# Altium schematic symbol library Transistors.SchLib: 148 symbols
Pins are listed as number, name and electrical type; pins without a type are passive.

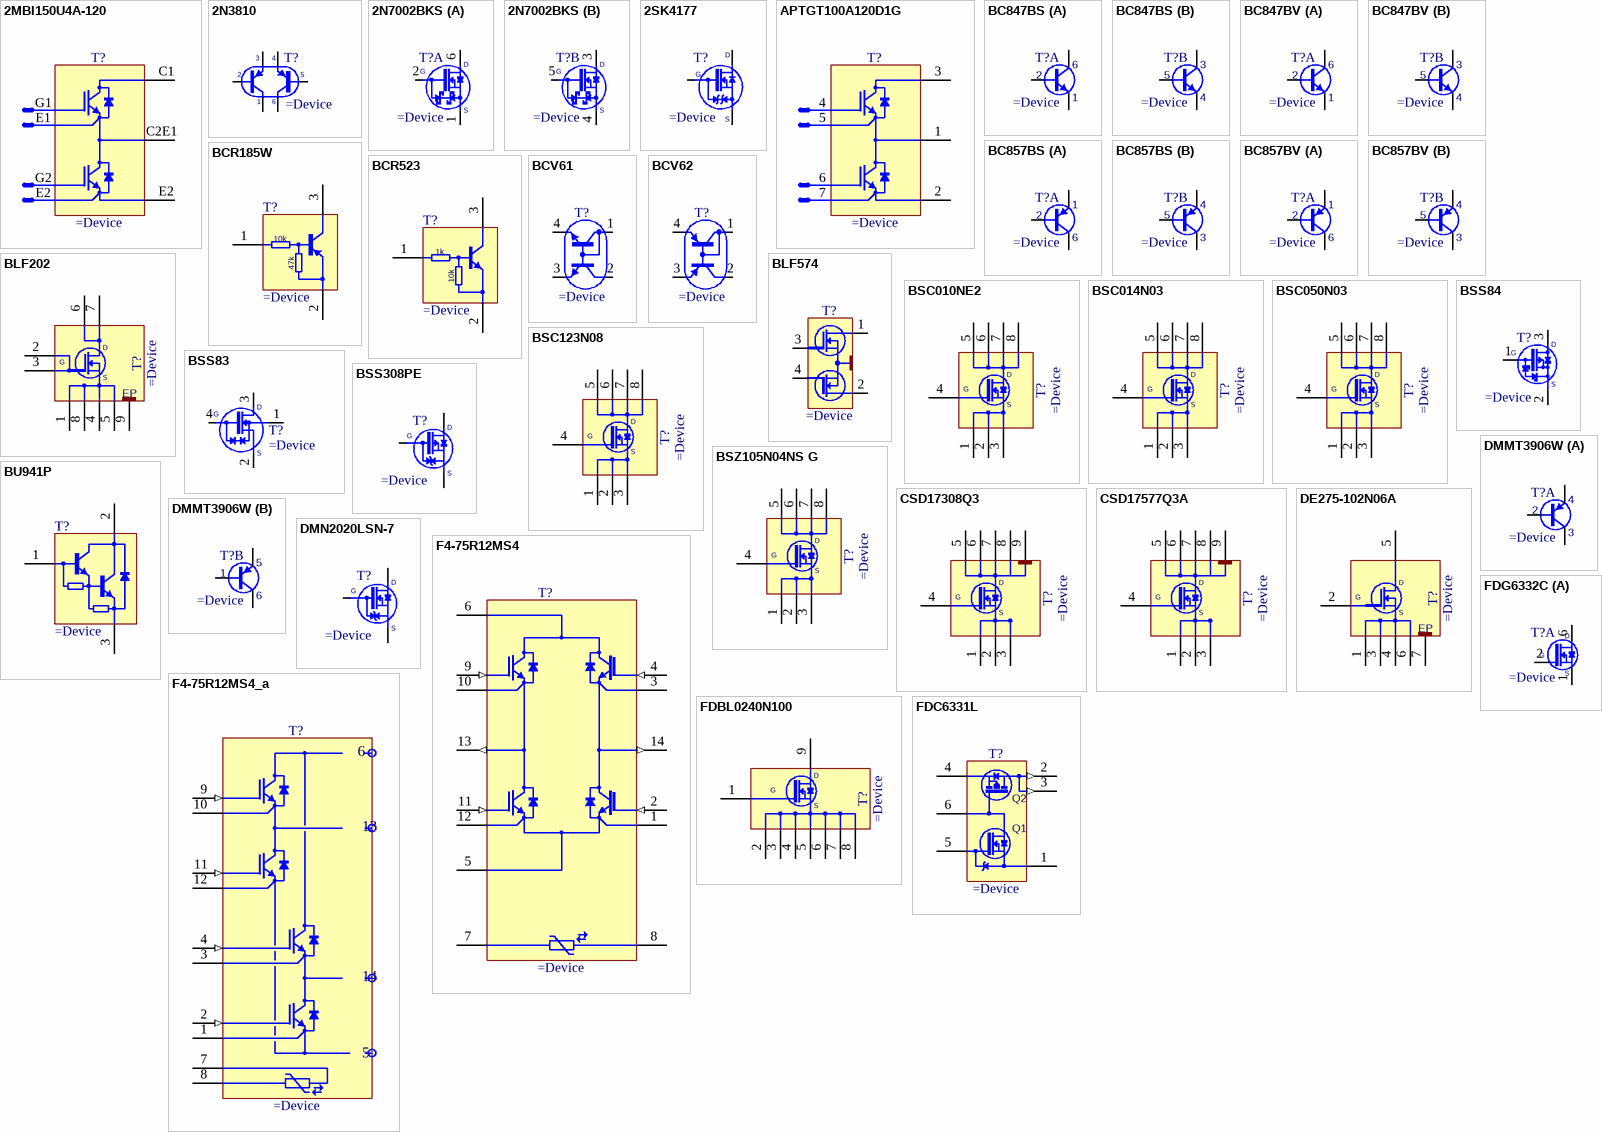
[diagram p0: symbols 2MBI150U4A-120 to FDG6332C]

## 2MBI150U4A-120
designator T?
150A 1200V, U Series (Gen.5), Trench-FS, N-Channel IGBTModule
pins: C1 (oc), C2E1 (oc), E2 (oe)
text: G1; E1; G2

## 2N3810
designator T?
Slilicon Dual Matched PNP Transistors
pins: 1 C1, 2 B1, 3 E1, 4 E2, 5 B2, 6 C2

## 2N7002BKS
designator T?
60V, 300mA Dual N-Channel Trench MOSFET
part A pins: 1 S, 2 G, 6 D
part B pins: 3 D, 4 S, 5 G

## 2SK4177
designator T?
1500V 2A N-Channel Power MOSFET
pins: 1 G, 2 S, 3 D

## APTGT100A120D1G
designator T?
Phase Leg Trench + Field Stop IGBTPower Module
pins: 1 C (oc), 2 E2 (oe), 3 C (oc)
text: 4; 5; 6; 7

## BC847BS
designator T?
45V 100mA Dual NPN General-Purpose Transistor
part A pins: 1 E, 2 B, 6 C
part B pins: 3 C, 4 E, 5 B

## BC847BV
designator T?
45V, 100mA NPN General Purpose Double Transistor
part A pins: 1 E, 2 B, 6 C
part B pins: 3 C, 4 E, 5 B

## BC857BS
designator T?
45V 100mA Dual NPN General-Purpose Transistor
part A pins: 1 E, 2 B, 6 C
part B pins: 3 C, 4 E, 5 B

## BC857BV
designator T?
45V, 100mA PNP General Purpose Double Transistor
part A pins: 1 E, 2 B, 6 C
part B pins: 3 C, 4 E, 5 B

## BCR185W
designator T?
PNP Silicon Digital Transistors
pins: 1 B, 2 E, 3 C
text: 10k; 47k

## BCR523
designator T?
NPN Silicon Digital Transistors
pins: 1 B, 2 E, 3 C
text: 1k; 10k

## BCV61
designator T?
Double NPN Transistor
pins: 1 C, 2 C, 3 E, 4 E

## BCV62
designator T?
Double PNP Transistor
pins: 1 C, 2 C, 3 E, 4 E

## BLF202
designator T?
HF/VHF power MOS transistor
pins: 1 S, 2 G, 3 S, 4 S, 5 D, 6 D, 7 D, 8 S, 9 EP

## BLF574
designator T?
HF / VHF power LDMOS transistor
pins: 1 D, 2 D, 3 S, 4 S

## BSC010NE2
designator T?
25V 100A N-Channel OptiMOS 3 Power-MOSFET
pins: 1 S, 2 S, 3 S, 4 G, D, D, D, D
text: 5; 6; 7; 8

## BSC014N03
designator T?
30V 100A N-Channel OptiMOS 3 Power-MOSFET
pins: 1 S, 2 S, 3 S, 4 S, D, D, D, D
text: 5; 6; 7; 8; G

## BSC050N03
designator T?
30V 80A N-Channel OptiMOS 3 Power-MOSFET
pins: 1 S, 2 S, 3 S, 4 G, D, D, D, D
text: 5; 6; 7; 8

## BSC123N08
designator T?
80V 55A N-Channel OptiMOS 3 Power-Transistor
pins: 1 S, 2 S, 3 S, 4 S, D, D, D, D
text: 5; 6; 7; 8; G

## BSS83
designator T?
10V, 50 mA N-Channel Enhancement Switching Transistor
pins: 1 SUB, 2 S, 3 D, 4 G

## BSS84
designator T?
50V, 180mA P-Channel Trench MOSFET
pins: 1 G, 2 S, 3 D

## BSS308PE
designator T?
-30V, -2A, P-Channel OptiMOS P3 Small-Signal-Transistor
pins: 1 G, 2 S, 3 D

## BSZ105N04NS G
designator T?
40V 40A N-Channel OptiMOS 3 Power-Transistor
pins: 1 S, 2 S, 3 S, 4 S, D, D, D, D
text: 5; 6; 7; 8; G

## BU941P
designator T?
High Voltage Ignition Coil Driver NPN Power Darlington Transistor
pins: 1 B, 2 C, 3 E

## CSD17308Q3
designator T?
30V 60A N-Channel  NexFET Power MOSFET
pins: 1 S, 2 S, 3 S, 4 S, 5 D, 6 D, 7 D, 8 D, 9 EP
text: G

## CSD17577Q3A
designator T?
30V 35A N-Channel  NexFET Power MOSFET
pins: 1 S, 2 S, 3 S, 4 S, 5 D, 6 D, 7 D, 8 D, 9 EP
text: G

## DE275-102N06A
designator T?
6A, 1000V,  RF power MOSFET
pins: 1 S, 2 G, 3 S, 4 S, 5 D, 6 D, 7 EP

## DMMT3906W
designator T?
40V Matched Pair PNP Small Signal Transistor
part A pins: 2 B, 3 C, 4 E
part B pins: 1 B, 5 E, 6 C

## DMN2020LSN-7
designator T?
20V, 6.9A, N-Channel Enhancement Mode MOSFET
pins: 1 G, 2 S, 3 D

## F4-75R12MS4
designator T?
1200V 75A EconoDUAL 2 module With The Fast IGBT2 For High-Frequency Switching And NTC
pins: 1 E (oc), 2 G (in), 3 E (oe), 4 G (in), 5 EE (oe), 6 CC (oc), 7 NTC, 8 NTC, 9 G (in), 10 E (oe), 11 G (in), 12 E (oe), 13 EC (out), 14 EC (out)

## F4-75R12MS4_a
designator T?
1200V 75A EconoDUAL 2 module With The Fast IGBT2 For High-Frequency Switching And NTC
pins: 1 E (oc), 2 G (in), 3 E (oe), 4 G (in), 7 NTC, 8 NTC, 9 G (in), 10 E (oe), 11 G (in), 12 E (oe)
text: 6; 13; 14; 5

## FDBL0240N100
designator T?
100V 210A N-Channel PowerTrench MOSFET
pins: 1 S, 2 S, 3 S, 4 S, 5 S, 6 S, 7 S, 8 S, 9 D
text: G

## FDC6331L
designator T?
8V, 2.8A, Integrated Load Switch, Dual MOSFET (P-Channel and N-Channel)
pins: 1 R2, 2 VOUT,C1 (out), 3 VOUT,C1 (out), 4 VIN,R1, 5 ON/OFF, 6 R1,C1
text: Q2; Q1

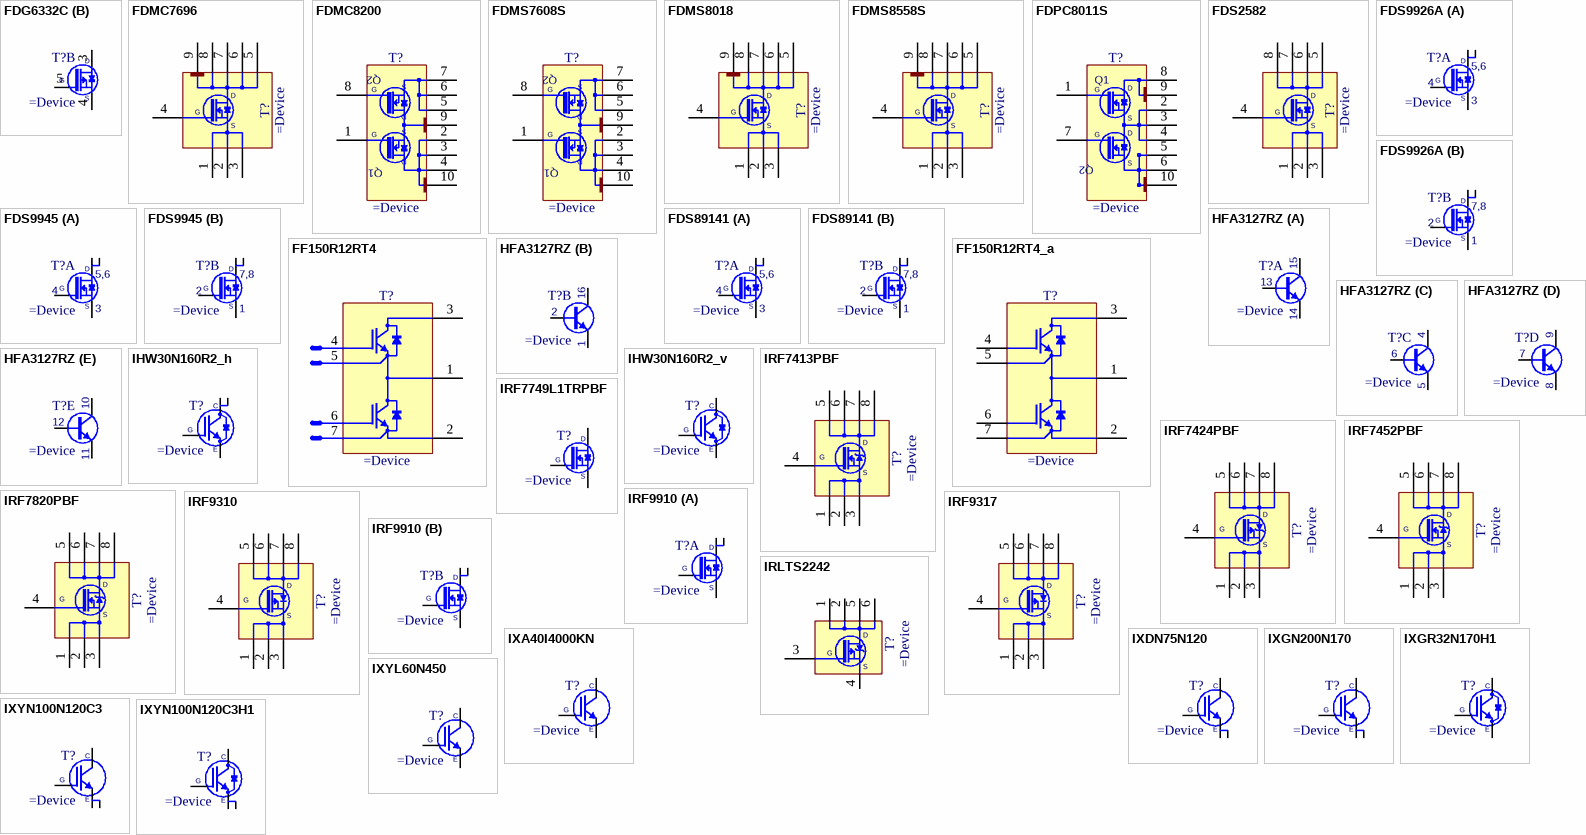
[diagram p1: symbols FDG6332C to IXYN100N120C3H1]

## FDG6332C
designator T?
20V N & P-Channel PowerTrench MOSFETs
part A pins: 1 S, 2 G, 6 D
part B pins: 3 D, 4 S, 5 G

## FDMC7696
designator T?
30V, 12A, N-Channel PowerTrench® MOSFET
pins: 1 S, 2 S, 3 S, 4 G, 5 D, 6 D, 7 D, 8 D, 9 D

## FDMC8200
designator T?
30V Dual N-Channel PowerTrench® MOSFET
pins: 1 G1, 2 D1, 3 D1, 4 D1, 5 S2, 6 S2, 7 S2, 8 G2, 9 S1D2, 10 D1
text: Q2; S; G; D; Q1

## FDMS7608S
designator T?
30V Dual N-Channel PowerTrench® MOSFET
pins: 1 G1, 2 D1, 3 D1, 4 D1, 5 S2, 6 S2, 7 S2, 8 G2, 9 S1D2, 10 D1
text: Q2; S; G; D; Q1

## FDMS8018
designator T?
30V, 175A N-Channel PowerTrench® MOSFET
pins: 1 S, 2 S, 3 S, 4 G, 5 D, 6 D, 7 D, 8 D, 9 D

## FDMS8558S
designator T?
25V, 90A, N-Channel PowerTrench® SYNCFET
pins: 1 S, 2 S, 3 S, 4 G, 5 D, 6 D, 7 D, 8 D, 9 D

## FDPC8011S
designator T?
25V Asymmetric Dual N-Channel PowerTrench® Power Clip MOSFET
pins: 1 HSG, 2 SW, 3 SW, 4 SW, 5 GND, 6 GND, 7 LSG, 8 G2, 9 V+, 10 GND
text: D; Q1; G; S; Q2

## FDS2582
designator T?
150V 4.1A N-Channel PowerTrench® MOSFET
pins: 1 S, 2 S, 3 S, 4 G, 5 D, 6 D, 7 D, 8 D

## FDS9926A
designator T?
20V DUAL N-Channel 2.5V Specified PowerTrench MOSFET
part A pins: 3 S, 4 G, 5 D, 6 D
part B pins: 1 S, 2 G, 7 D, 8 D
part A text: 5,6
part B text: 7,8

## FDS9945
designator T?
60V N-Channel PowerTrench MOSFET
part A pins: 3 S, 4 G, 5 D, 6 D
part B pins: 1 S, 2 G, 7 D, 8 D
part A text: 5,6
part B text: 7,8

## FDS89141
designator T?
100V Dual N-Channel PowerTrench® MOSFET
part A pins: 3 S, 4 G, 5 D, 6 D
part B pins: 1 S, 2 G, 7 D, 8 D
part A text: 5,6
part B text: 7,8

## FF150R12RT4
designator T?
34mm Module with Fast Trench/Fieldstop IGBT4 and Emetter Controlled 4 Diode
pins: 1 C (oc), 2 E2 (oe), 3 C (oc)
text: 4; 5; 6; 7

## FF150R12RT4_a
designator T?
34mm Module with Fast Trench/Fieldstop IGBT4 and Emetter Controlled 4 Diode
pins: 1 C (oc), 2 E2 (oe), 3 C (oc), 4 B1 (oc), 5 E1 (oc), 6 B2 (oc), 7 E2 (oc)

## HFA3127RZ
designator T?
8GHz Ultra High Frequency NPN Transistor Array (x5)
part A pins: 13 B, 14 E, 15 C
part B pins: 1 E, 2 B, 16 C
part C pins: 4 C, 5 E, 6 B
part D pins: 7 B, 8 E, 9 C
part E pins: 10 C, 11 E, 12 B

## IHW30N160R2_h
designator T?
1600V 30A TrenchStop® Reverse Conducting (RC-)IGBT with Monolithic Body Diode
pins: 1 G, 2 C, 3 E, 4 C

## IHW30N160R2_v
designator T?
1600V 30A TrenchStop® Reverse Conducting (RC-)IGBT with Monolithic Body Diode
pins: 1 G, 2 C, 3 E

## IRF7413PBF
designator T?
30V 13A N-Channel HEXFET® Power MOSFET
pins: 1 S, 2 S, 3 S, 4 S, 5 D, 6 D, 7 D, 8 D
text: G

## IRF7424PBF
designator T?
30V 11A P-Channel HEXFET® Power MOSFET
pins: 1 S, 2 S, 3 S, 4 S, 5 D, 6 D, 7 D, 8 D
text: G

## IRF7452PBF
designator T?
100V 4.5A N-Channel HEXFET® Power MOSFET
pins: 1 S, 2 S, 3 S, 4 S, 5 D, 6 D, 7 D, 8 D
text: G

## IRF7749L1TRPBF
designator T?
33A, 60V, N-Channel DirectFET Power-MOSFET
pins: D, G, S

## IRF7820PBF
designator T?
200V 3.7A N-Channel HEXFET® Power MOSFET
pins: 1 S, 2 S, 3 S, 4 S, 5 D, 6 D, 7 D, 8 D
text: G

## IRF9310
designator T?
-30V -20A P-Channel HEXFET® Power MOSFET
pins: 1 S, 2 S, 3 S, 4 S, 5 D, 6 D, 7 D, 8 D
text: G

## IRF9317
designator T?
-30V -16A P-Channel HEXFET® Power MOSFET
pins: 1 S, 2 S, 3 S, 4 S, 5 D, 6 D, 7 D, 8 D
text: G

## IRF9910
designator T?
Dual SO-8 MOSFET For POL Cconverter
part A pins: 3 S, 4 G, 5 D, 6 D
part B pins: 1 S, 2 G, 7 D, 8 D

## IRLTS2242
designator T?
-20V -6.9A P-Channel HEXFET Power MOSFET
pins: 1 D, 2 D, 3 S, 4 S, 5 D, 6 D
text: G

## IXA40I4000KN
designator T?
Very High Voltage Single IGBT
pins: 1 G, 2 E, 3 C

## IXDN75N120
designator T?
1700V 160A High-Voltage IGBT
pins: 1 E, 2 G, 3 C, 4 E

## IXGN200N170
designator T?
High-Voltage IGBT 1700V 160A
pins: 1 E, 2 G, 3 C, 4 E

## IXGR32N170H1
designator T?
1700V, 20A, High-Voltage, Electrically Isolated Tab, Insulated Gate Bipolar Transistor (IGBT) with Diode
pins: 1 G, 2 C, 3 E

## IXYL60N450
designator T?
4500V 38A Voltage Single XPT IGBT
pins: 1 G, 2 E, 3 C

## IXYN100N120C3
designator T?
High-Speed IGBT for 20-50 kHz Switching
pins: 1 E, 2 G, 3 C, 4 E

## IXYN100N120C3H1
designator T?
High-Speed IGBT for 20-50 kHz Switching
pins: 1 E, 2 G, 3 C, 4 E

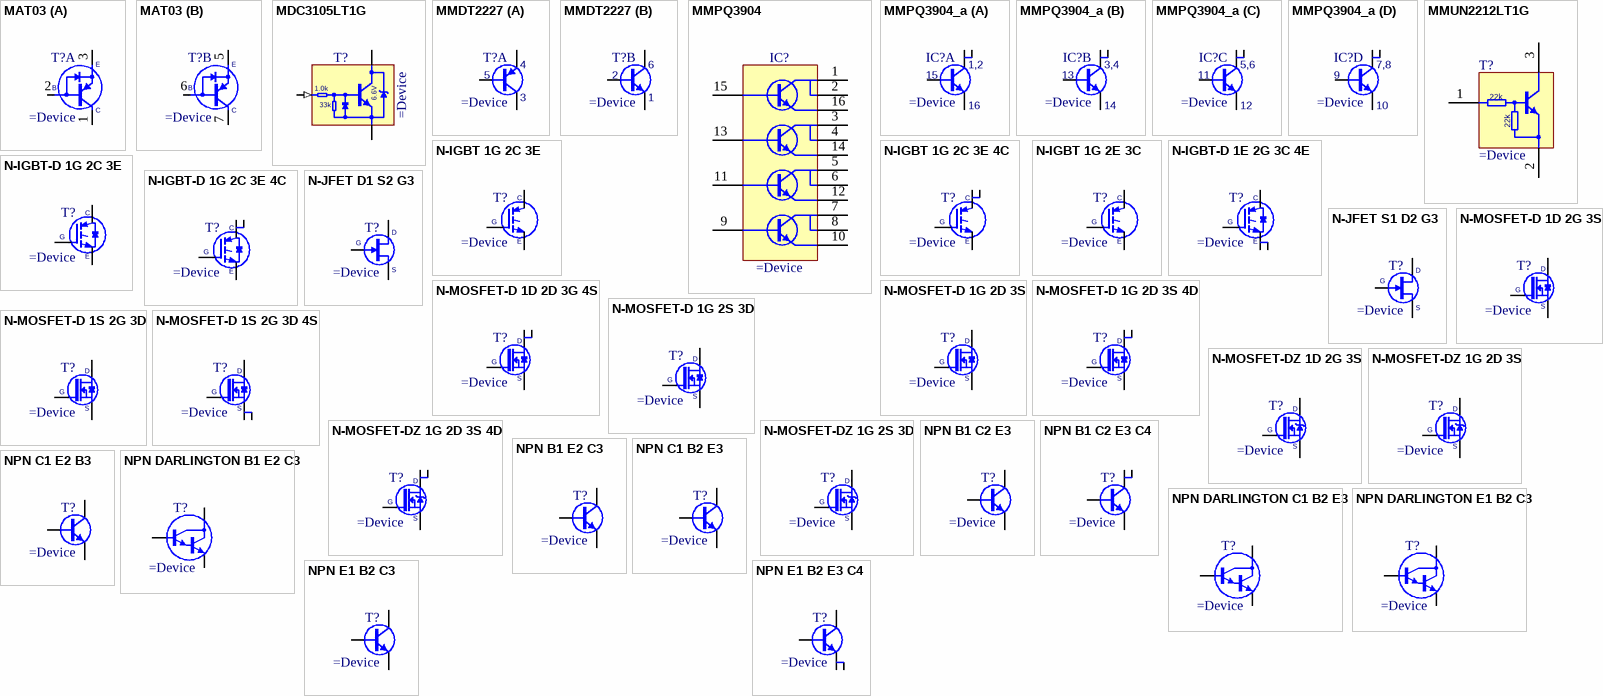
[diagram p2: symbols MAT03 to NPN E1 B2 E3 C4]

## MAT03
designator T?
Low Noise, Matched Dual PNP Transistor
part A pins: 1 C, 2 B, 3 E
part B pins: 5 E, 6 B, 7 C

## MDC3105LT1G
designator T?
Integrated Relay, Inductive Load Driver
pins: 1 IN (in), 2 GND (oe), 3 OUT (oc)
text: 1.0k; 33k; 6.6V

## MMDT2227
designator T?
Complementary NPN / PNP Small Signal Surface Mount Transistor
part A pins: 3 C, 4 E, 5 B
part B pins: 1 E, 2 B, 6 C

## MMPQ3904
designator IC?
Quad Amplifier/Switch NPN Transistor
pins: 1 C, 2 C, 3 C, 4 C, 5 C, 6 C, 7 C, 8 C, 9 C, 10 C, 11 C, 12 C, 13 C, 14 C, 15 C, 16 C

## MMPQ3904_a
designator IC?
Quad Amplifier/Switch NPN Transistor
part A pins: 1 C, 2 C, 15 B, 16 E
part B pins: 3 C, 4 C, 13 B, 14 E
part C pins: 5 C, 6 C, 11 B, 12 E
part D pins: 7 C, 8 C, 9 B, 10 E
part A text: 1,2
part B text: 3,4
part C text: 5,6
part D text: 7,8

## MMUN2212LT1G
designator T?
NPN Transistors with Monolithic Bias Resistor Network
pins: 1 B, 2 E, 3 C
text: 22k

## N-IGBT 1G 2C 3E
designator T?
N-Channel IGBT
pins: 1 G, 2 C, 3 E

## N-IGBT 1G 2C 3E 4C
designator T?
N-Channel IGBT
pins: 1 G, 2 C, 3 E, 4 C

## N-IGBT 1G 2E 3C
designator T?
N-Channel IGBT
pins: 1 G, 2 E, 3 C

## N-IGBT-D 1E 2G 3C 4E
designator T?
N-Channel IGBT With Diode
pins: 1 E, 2 G, 3 C, 4 E

## N-IGBT-D 1G 2C 3E
designator T?
N-Channel IGBT With Diode
pins: 1 G, 2 C, 3 E

## N-IGBT-D 1G 2C 3E 4C
designator T?
N-Channel IGBT With Diode
pins: 1 G, 2 C, 3 E, 4 C

## N-JFET D1 S2 G3
designator T?
N-Channel JFET
pins: 1 D, 2 S, 3 G

## N-JFET S1 D2 G3
designator T?
N-Channel JFET
pins: 1 S, 2 D, 3 G

## N-MOSFET-D 1D 2D 3G 4S
designator T?
N-Channel MOSFET
pins: 1 D, 2 D, 3 G, 4 S

## N-MOSFET-D 1D 2G 3S
designator T?
N-CHANNEL MOSFET WITH DIODE
pins: 1 D, 2 G, 3 S

## N-MOSFET-D 1G 2D 3S
designator T?
N-CHANNEL MOSFET WITH DIODE
pins: 1 G, 2 D, 3 S

## N-MOSFET-D 1G 2D 3S 4D
designator T?
N-CHANNEL MOSFET WITH DIODE AND 2 DRAIN
pins: 1 G, 2 D, 3 S, 4 D

## N-MOSFET-D 1G 2S 3D
designator T?
N-CHANNEL MOSFET WITH DIODE
pins: 1 G, 2 S, 3 D

## N-MOSFET-D 1S 2G 3D
designator T?
N-CHANNEL MOSFET WITH DIODE
pins: 1 S, 2 G, 3 D

## N-MOSFET-D 1S 2G 3D 4S
designator T?
N-CHANNEL MOSFET WITH DIODE
pins: 1 S, 2 G, 3 D, 4 S

## N-MOSFET-DZ 1D 2G 3S
designator T?
N-CHANNEL MOSFET WITH ZENER DIODE
pins: 1 D, 2 G, 3 S

## N-MOSFET-DZ 1G 2D 3S
designator T?
N-CHANNEL MOSFET WITH ZENER DIODE
pins: 1 G, 2 D, 3 S

## N-MOSFET-DZ 1G 2D 3S 4D
designator T?
N-CHANNEL MOSFET WITH ZENER DIODE
pins: 1 G, 2 D, 3 S, 4 D

## N-MOSFET-DZ 1G 2S 3D
designator T?
N-CHANNEL MOSFET WITH ZENER DIODE
pins: 1 G, 2 S, 3 D

## NPN B1 C2 E3
designator T?
NPN Transistor
pins: 1 B, 2 C, 3 E

## NPN B1 C2 E3 C4
designator T?
NPN Transistor
pins: 1 B, 2 C, 3 E, 4 C

## NPN B1 E2 C3
designator T?
NPN Transistor
pins: 1 B, 2 E, 3 C

## NPN C1 B2 E3
designator T?
NPN Transistor
pins: 1 C, 2 B, 3 E

## NPN C1 E2 B3
designator T?
NPN Transistor
pins: 1 C, 2 E, 3 B

## NPN DARLINGTON B1 E2 C3
designator T?
NPN Darlington Transistor
pins: 1 B, 2 E, 3 C

## NPN DARLINGTON C1 B2 E3
designator T?
NPN Darlington Transistor
pins: 1 C, 2 B, 3 E

## NPN DARLINGTON E1 B2 C3
designator T?
NPN Darlington Transistor
pins: 1 E, 2 B, 3 C

## NPN E1 B2 C3
designator T?
NPN Transistor
pins: 1 E, 2 B, 3 C

## NPN E1 B2 E3 C4
designator T?
NPN Transistor
pins: 1 E, 2 B, 3 E, 4 C

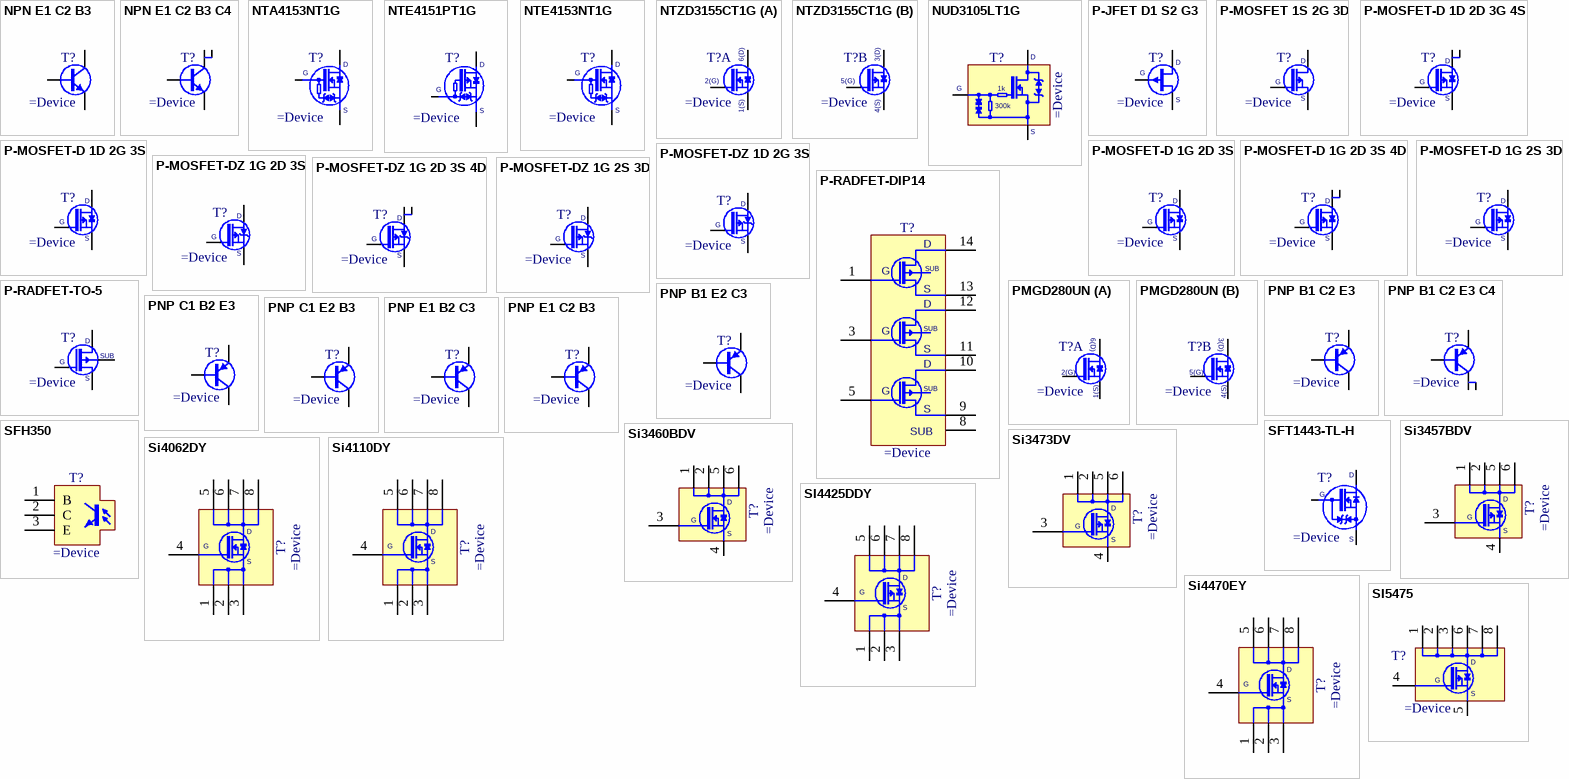
[diagram p3: symbols NPN E1 C2 B3 to SI5475]

## NPN E1 C2 B3
designator T?
NPN Transistor
pins: 1 E, 2 C, 3 B

## NPN E1 C2 B3 C4
designator T?
NPN Transistor
pins: 1 E, 2 C, 3 B, 4 C

## NTA4153NT1G
designator T?
20V, 915mA, N-Channel MOSFET with ESD Protection
pins: 1 G, 2 S, 3 D

## NTE4151PT1G
designator T?
-20V, -760mA, P-Channel MOSFET with ESD Protection
pins: 1 G, 2 S, 3 D

## NTE4153NT1G
designator T?
20V, 915mA, N-Channel MOSFET with ESD Protection
pins: 1 G, 2 S, 3 D

## NTZD3155CT1G
designator T?
Small Signal MOSFET, Complementary N-Channel 20V 540mA, P-Channel -20V -430mA
part A pins: 1 S, 2 G, 6 D
part B pins: 3 D, 4 S, 5 G
part A text: 6(D); 2(G); 1(S)
part B text: 3(D); 5(G); 4(S)

## NUD3105LT1G
designator T?
Integrated Relay, Inductive Load Driver
pins: 1 G, 2 S, 3 D
text: 1k; 300k

## P-JFET D1 S2 G3
designator T?
P-Channel JFET
pins: 1 D, 2 S, 3 G

## P-MOSFET 1S 2G 3D
designator T?
P-CHANNEL MOSFET
pins: 1 S, 2 G, 3 D

## P-MOSFET-D 1D 2D 3G 4S
designator T?
P-Channel MOSFET
pins: 1 D, 2 D, 3 G, 4 S

## P-MOSFET-D 1D 2G 3S
designator T?
P-CHANNEL MOSFET WITH DIODE
pins: 1 D, 2 G, 3 S

## P-MOSFET-D 1G 2D 3S
designator T?
P-CHANNEL MOSFET WITH DIODE
pins: 1 G, 2 D, 3 S

## P-MOSFET-D 1G 2D 3S 4D
designator T?
P-CHANNEL MOSFET WITH DIODE AND 2 DRAIN
pins: 1 G, 2 D, 3 S, 4 D

## P-MOSFET-D 1G 2S 3D
designator T?
P-CHANNEL MOSFET WITH DIODE
pins: 1 G, 2 S, 3 D

## P-MOSFET-DZ 1D 2G 3S
designator T?
P-CHANNEL MOSFET WITH ZENER DIODE
pins: 1 D, 2 G, 3 S

## P-MOSFET-DZ 1G 2D 3S
designator T?
P-CHANNEL MOSFET WITH ZENER DIODE
pins: 1 G, 2 D, 3 S

## P-MOSFET-DZ 1G 2D 3S 4D
designator T?
P-CHANNEL MOSFET WITH ZENER DIODE
pins: 1 G, 2 D, 3 S, 4 D

## P-MOSFET-DZ 1G 2S 3D
designator T?
P-CHANNEL MOSFET WITH ZENER DIODE
pins: 1 G, 2 S, 3 D

## P-RADFET-DIP14
designator T?
P-Channel Radiation-Sensing Field-Effect Transistor Dosimeter in DIP14 Package
pins: 1 G, 3 G, 5 G, 8 SUB, 9 S, 10 D, 11 S, 12 D, 13 S, 14 D
1 alternate drawing of the same symbol

## P-RADFET-TO-5
designator T?
P-Channel Radiation-Sensing Field-Effect Transistor Dosimeter in TO-5 Package
pins: 1 D, 2 G, 3 S, 4 SUB
1 alternate drawing of the same symbol

## PMGD280UN
designator T?
Dual N-Channel micro TrenchMOS™ Ultra Low Level FET
part A pins: 1 S, 2 G, 6 D
part B pins: 3 D, 4 S, 5 G
part A text: 6(D); 2(G); 1(S)
part B text: 3(D); 5(G); 4(S)

## PNP B1 C2 E3
designator T?
PNP Transistor
pins: 1 B, 2 C, 3 E

## PNP B1 C2 E3 C4
designator T?
PNP Transistor
pins: 1 B, 2 C, 3 E, 4 C

## PNP B1 E2 C3
designator T?
PNP Transistor
pins: 1 B, 2 E, 3 C

## PNP C1 B2 E3
designator T?
PNP Transistor
pins: 1 C, 2 B, 3 E

## PNP C1 E2 B3
designator T?
PNP Transistor
pins: 1 C, 2 E, 3 B

## PNP E1 B2 C3
designator T?
PNP Transistor
pins: 1 E, 2 B, 3 C

## PNP E1 C2 B3
designator T?
PNP Transistor
pins: 1 E, 2 C, 3 B

## SFH350
designator T?
Phototransistor
pins: 1 B, 2 C, 3 E

## SFT1443-TL-H
designator T?
100V, 9A, N-Channel Power MOSFET
pins: 1 G, 2 S, 3 D

## Si3457BDV
designator T?
-30V -3.7A P-Channel MOSFET
pins: 1 D, 2 D, 3 S, 4 S, 5 D, 6 D
text: G

## Si3460BDV
designator T?
N-Channel 20-V MOSFET
pins: 1 D, 2 D, 3 S, 4 S, 5 D, 6 D
text: G

## Si3473DV
designator T?
-12V -5.9A P-Channel MOSFET
pins: 1 D, 2 D, 3 S, 4 S, 5 D, 6 D
text: G

## Si4062DY
designator T?
60V 25 to 32.1A N-Channel MOSFET
pins: 1 S, 2 S, 3 S, 4 S, 5 D, 6 D, 7 D, 8 D
text: G

## Si4110DY
designator T?
80V 17.3A N-Channel TrenchFET Power MOSFET
pins: 1 S, 2 S, 3 S, 4 S, 5 D, 6 D, 7 D, 8 D
text: G

## SI4425DDY
designator T?
-30V -19.7A P-Channel MOSFET
pins: 1 S, 2 S, 3 S, 4 S, 5 D, 6 D, 7 D, 8 D
text: G

## Si4470EY
designator T?
60V 12.7A N-Channel MOSFET
pins: 1 S, 2 S, 3 S, 4 S, 5 D, 6 D, 7 D, 8 D
text: G

## SI5475
designator T?
-12V -6.6A P-Channel MOSFET
pins: 1 D, 2 D, 3 D, 4 G, 5 S, 6 D, 7 D, 8 D

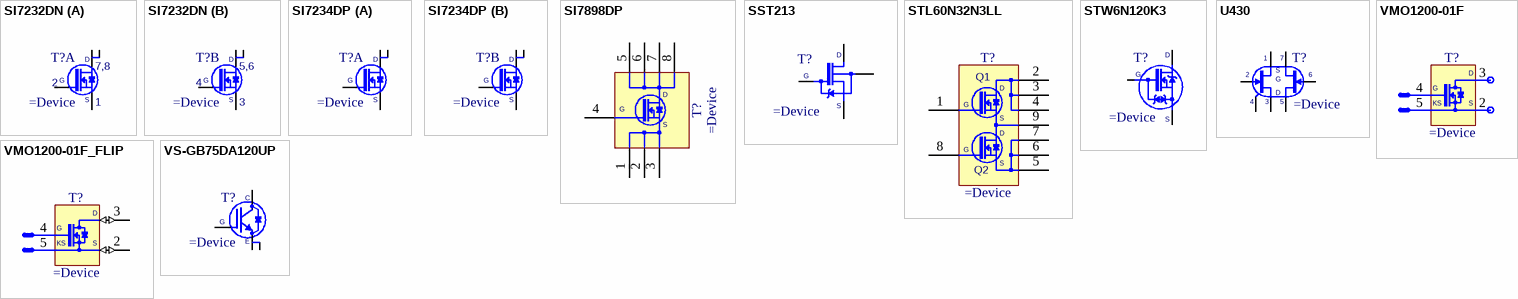
[diagram p4: symbols SI7232DN to VS-GB75DA120UP]

## SI7232DN
designator T?
20V 25A DUAL N-Channel MOSFET
part A pins: 1 S, 2 G, D1 D, D1 D
part B pins: 3 S, 4 G, D2 D, D2 D
part A text: 7,8
part B text: 5,6

## SI7234DP
designator T?
12V 60A Dual N-Channel MOSFET
part A pins: 1 S, 2 G, D1, D1
part B pins: 3 S, 4 G, D2, D2
part A text: D
part B text: D

## SI7898DP
designator T?
4.5A N-Channel 150-V (D-S) MOSFET
pins: 1 S, 2 S, 3 S, 4 S, D, D, D, D
text: 5; 6; 7; 8; G

## SST213
designator T?
N-CHANNEL DMOS FET WITH ZENER DIODE
pins: 1 BODY, 2 S, 3 D, 4 G

## STL60N32N3LL
designator T?
Dual N-Channel 30V, 0.005 Ohm, 15A PowerFLAT™ 5x6 Asymmetrical Double Island, STripFET™ Power MOSFET
pins: 1 G1, 2 D1, 3 D1, 4 D1, 5 S2, 6 S2, 7 S2, 8 G2, 9 S1D2
text: D; Q1; G; S; Q2

## STW6N120K3
designator T?
1200V 6A N-Channel, SuperMESH3™ Power MOSFET
pins: 1 G, 2 D, 3 S

## U430
designator T?
Matched Pairs N-Channel JFET
pins: 1 S, 2 G, 3 D, 4 CASE, 5 S, 6 G, 7 S

## VMO1200-01F
designator T?
1220A, 100V, N-Channel MOSFET PolarHT  Module
text: 3; D; 4; G; 5; 2; KS; S

## VMO1200-01F_FLIP
designator T?
1220A, 100V, N-Channel MOSFET PolarHT  Module
pins: 2 S (io), 3 D (io)
text: 4; G; 5; KS

## VS-GB75DA120UP
designator T?
Insulated Gate Bipolar Transistor (Ultrafast IGBT)
pins: 1 E, 2 G, 3 C, 4 E